# Altium schematic symbol library RNCF0805BTE10K4.SchLib: 2 symbols
Pins are listed as number, name and electrical type; pins without a type are passive.

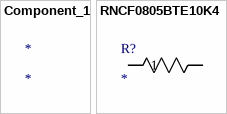
[diagram p0: symbols Component_1 to RNCF0805BTE10K4]

## Component_1
designator *

## RNCF0805BTE10K4
designator R?
No Description Available; Mfr_Name: Stackpole International
footprint RES_RNCF0805_STP
pins: 1, 2